# Altium footprint library 1N5819HW-7-F.PcbLib: 1 footprints
Each footprint in its own frame and in the unit in brackets; x right, y up, seen from the top. Pads: shape width x height; smd on the part's side, far side on the other; paste and mask are expansions set on the pad; w line width, h text height; cw(c..) or ccw(c..) is an arc to the next point about the centre after c.
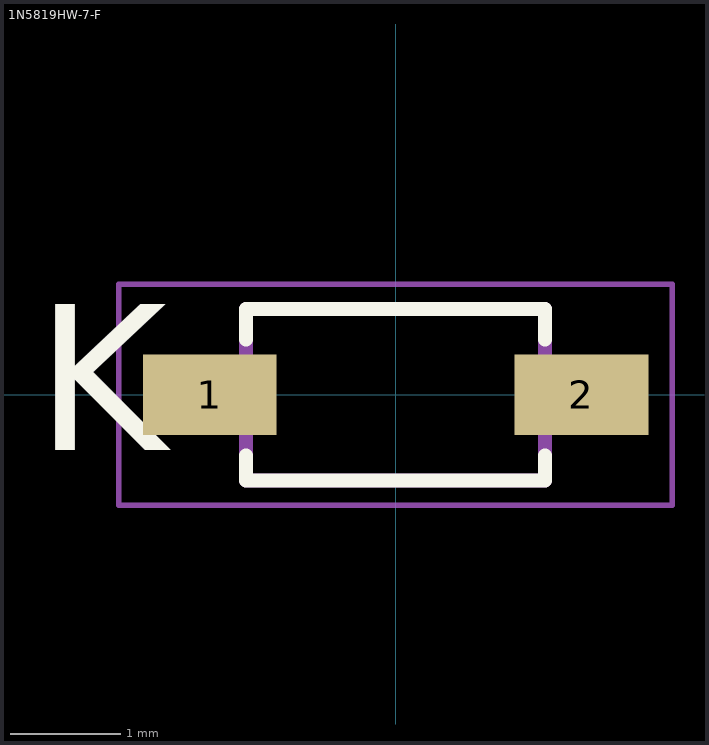
[diagram p0: the footprint, top view; thin cyan lines are the x and y axes]

## 1N5819HW-7-F [mm]
pads (2):
  rect 1.21x0.73 smd: 1(-1.68,0) 2(1.68,0)
Top Overlay:
  lines w0.127: -1.35,-0.55 -1.35,-0.775 1.35,-0.775 1.35,-0.55 ; -1.35,0.5 -1.35,0.775 1.35,0.775 1.35,0.5
  text "K" at -3.252,-0.5 h1.88
Mechanical 4:
  lines w0.127: -1.35,-0.775 -1.35,0.775 ; -1.35,-0.775 1.35,-0.775 ; -1.35,-0.775 -1.35,0.775 ; -1.35,-0.775 1.35,-0.775 ; -1.35,0.775 1.35,0.775 ; -1.35,0.775 1.35,0.775 ; 1.35,-0.775 1.35,0.775 ; 1.35,-0.775 1.35,0.775
Mechanical 16:
  lines w0.05: -2.5,-1 -2.5,1 2.5,1 2.5,-1 -2.5,-1